# Altium footprint library texas.PCBLIB: 1 footprints
Each footprint in its own frame and in the unit in brackets; x right, y up, seen from the top. Pads: shape width x height; smd on the part's side, far side on the other; paste and mask are expansions set on the pad; w line width, h text height; cw(c..) or ccw(c..) is an arc to the next point about the centre after c.
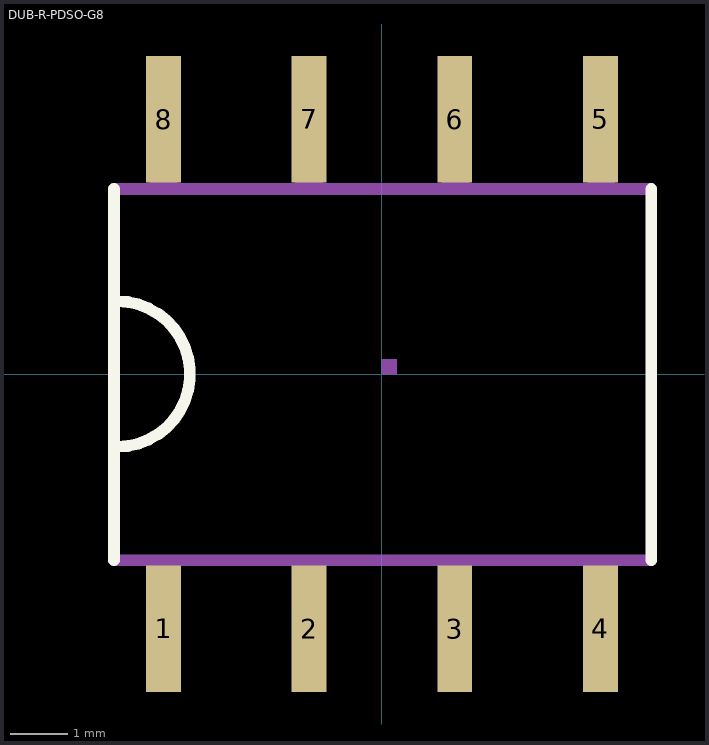
[diagram p0: the footprint, top view; thin cyan lines are the x and y axes]

## DUB-R-PDSO-G8 [mil]
pads (8):
  rect 24x87 smd: 1(-150,-175) 2(-50,-175) 3(50,-175) 4(150,-175) 5(150,175) 6(50,175) 7(-50,175) 8(-150,175)
Top Overlay:
  lines w8: -184.06,-127.95 -184.06,127 ; -181.89,-50 ccw(c-181.89,0) -181.89,50 ; 185,-127.95 185,127
Mechanical 16:
  rectangle: -159.65,-210.63 -140.35,-125
  rectangle: -59.65,-210.63 -40.35,-125
  rectangle: 41,-210.63 60,-125
  rectangle: 141,-210.63 160,-125
  rectangle: 141,125 160,211
  rectangle: 41,125 60,211
  rectangle: -59.65,125 -40.35,211
  rectangle: -159.65,125 -140.35,211
  region: 0,0 10,0 10,10 0,10
  region: 0,0 10,0 10,10 0,10
  region: 0,0 10,0 10,10 0,10
  region: 0,0 10,0 10,10 0,10
  region: 0,0 10,0 10,10 0,10
  region: 0,0 10,0 10,10 0,10
  region: 0,0 10,0 10,10 0,10
  region: 0,0 10,0 10,10 0,10
  region: 0,0 10,0 10,10 0,10
  region: 0,0 10,0 10,10 0,10
  region: 0,0 10,0 10,10 0,10
  region: 0,0 10,0 10,10 0,10
  lines w8: -184.06,-127.95 185,-127.95 ; -184.06,127 185,127